# Altium footprint library STM32H563ZIT3Q.PcbLib: 3 footprints
Each footprint in its own frame and in the unit in brackets; x right, y up, seen from the top. Pads: shape width x height; smd on the part's side, far side on the other; paste and mask are expansions set on the pad; w line width, h text height; cw(c..) or ccw(c..) is an arc to the next point about the centre after c.
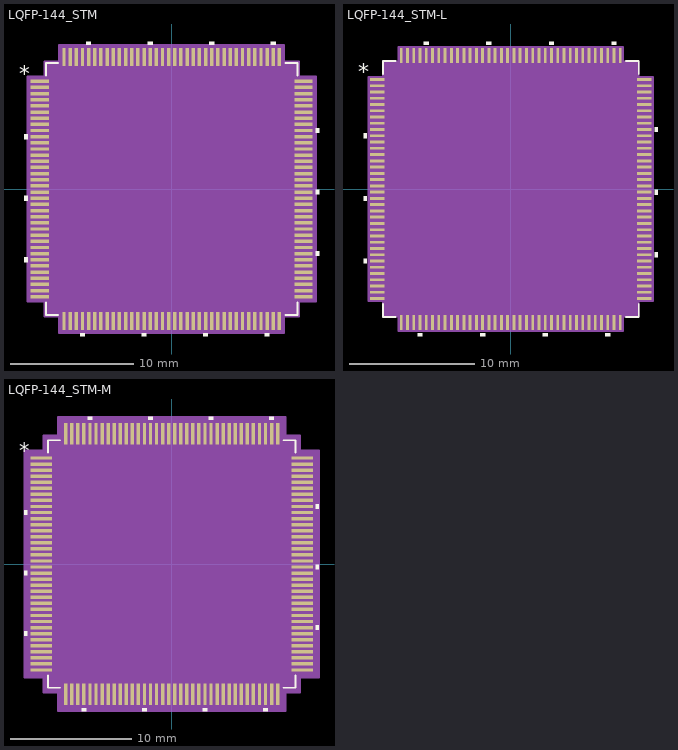
[diagram p0: the footprints below, top view; thin cyan lines are the x and y axes]

## LQFP-144_STM [mil]
pads (144):
  rect 58x11 smd paste+0 mask+0: 1(-422,344.49) 2(-422,324.8) 3(-422,305.12) 4(-422,285.43) 5(-422,265.75) 6(-422,246.06) 7(-422,226.38) 8(-422,206.69) 9(-422,187.01) 10(-422,167.32) 11(-422,147.64) 12(-422,127.95) 13(-422,108.27) 14(-422,88.58) 15(-422,68.9) 16(-422,49.21) 17(-422,29.53) 18(-422,9.84) 19(-422,-9.84) 20(-422,-29.53) 21(-422,-49.21) 22(-422,-68.9) 23(-422,-88.58) 24(-422,-108.27) 25(-422,-127.95) 26(-422,-147.64) 27(-422,-167.32) 28(-422,-187.01) 29(-422,-206.69) 30(-422,-226.38) 31(-422,-246.06) 32(-422,-265.75) 33(-422,-285.43) 34(-422,-305.12) 35(-422,-324.8) 36(-422,-344.49) 73(422,-344.49) 74(422,-324.8) 75(422,-305.12) 76(422,-285.43) 77(422,-265.75) 78(422,-246.06) 79(422,-226.38) 80(422,-206.69) 81(422,-187.01) 82(422,-167.32) 83(422,-147.64) 84(422,-127.95) 85(422,-108.27) 86(422,-88.58) 87(422,-68.9) 88(422,-49.21) 89(422,-29.53) 90(422,-9.84) 91(422,9.84) 92(422,29.53) 93(422,49.21) 94(422,68.9) 95(422,88.58) 96(422,108.27) 97(422,127.95) 98(422,147.64) 99(422,167.32) 100(422,187.01) 101(422,206.69) 102(422,226.38) 103(422,246.06) 104(422,265.75) 105(422,285.43) 106(422,305.12) 107(422,324.8) 108(422,344.49)
  rect 11x58 smd paste+0 mask+0: 37(-344.49,-422) 38(-324.8,-422) 39(-305.12,-422) 40(-285.43,-422) 41(-265.75,-422) 42(-246.06,-422) 43(-226.38,-422) 44(-206.69,-422) 45(-187.01,-422) 46(-167.32,-422) 47(-147.64,-422) 48(-127.95,-422) 49(-108.27,-422) 50(-88.58,-422) 51(-68.9,-422) 52(-49.21,-422) 53(-29.53,-422) 54(-9.84,-422) 55(9.84,-422) 56(29.53,-422) 57(49.21,-422) 58(68.9,-422) 59(88.58,-422) 60(108.27,-422) 61(127.95,-422) 62(147.64,-422) 63(167.32,-422) 64(187.01,-422) 65(206.69,-422) 66(226.38,-422) 67(246.06,-422) 68(265.75,-422) 69(285.43,-422) 70(305.12,-422) 71(324.8,-422) 72(344.49,-422) 109(344.49,422) 110(324.8,422) 111(305.12,422) 112(285.43,422) 113(265.75,422) 114(246.06,422) 115(226.38,422) 116(206.69,422) 117(187.01,422) 118(167.32,422) 119(147.64,422) 120(127.95,422) 121(108.27,422) 122(88.58,422) 123(68.9,422) 124(49.21,422) 125(29.53,422) 126(9.84,422) 127(-9.84,422) 128(-29.53,422) 129(-49.21,422) 130(-68.9,422) 131(-88.58,422) 132(-108.27,422) 133(-127.95,422) 134(-147.64,422) 135(-167.32,422) 136(-187.01,422) 137(-206.69,422) 138(-226.38,422) 139(-246.06,422) 140(-265.75,422) 141(-285.43,422) 142(-305.12,422) 143(-324.8,422) 144(-344.49,422)
Top Overlay:
  region: -461,174.82 -471,174.82 -471,159.82 -461,159.82
  region: -461,-22.03 -471,-22.03 -471,-37.03 -461,-37.03
  region: -461,-218.88 -471,-218.88 -471,-233.88 -461,-233.88
  region: -277.93,-461 -292.93,-461 -292.93,-471 -277.93,-471
  region: -81.08,-461 -96.08,-461 -96.08,-471 -81.08,-471
  region: 115.77,-461 100.77,-461 100.77,-471 115.77,-471
  region: 312.62,-461 297.62,-461 297.62,-471 312.62,-471
  region: 461,-199.19 471,-199.19 471,-214.19 461,-214.19
  region: 461,-2.34 471,-2.34 471,-17.34 461,-17.34
  region: 461,194.51 471,194.51 471,179.51 461,179.51
  region: 332.3,461 317.3,461 317.3,471 332.3,471
  region: 135.45,461 120.45,461 120.45,471 135.45,471
  region: -61.4,461 -76.4,461 -76.4,471 -61.4,471
  region: -258.25,461 -273.25,461 -273.25,471 -258.25,471
  lines w6: -402.5,-363.09 -402.5,-402.5 -363.09,-402.5 ; -402.5,363.09 -402.5,402.5 -363.09,402.5 ; 363.09,-402.5 402.5,-402.5 402.5,-363.09 ; 363.09,402.5 402.5,402.5 402.5,363.09
  text "*" at -488.5,344.33 h50
  text ".Designator" at -137.5,-25 h50
Mechanical 13:
  drawing of 581 lines, arcs and shapes, not listed
  text ".Designator" at -137.5,-25 h50
  text "*" at -395,329.33 h50
Mechanical 15:
  region: -359.99,-407.5 -407.5,-407.5 -407.5,-359.99 -461,-359.99 -461,359.99 -407.5,359.99 -407.5,407.5 -359.99,407.5 -359.99,461 359.99,461 359.99,407.5 407.5,407.5 407.5,359.99 461,359.99 461,-359.99 407.5,-359.99 407.5,-407.5 359.99,-407.5 359.99,-461 -359.99,-461
  lines w6: -461,-359.99 -407.5,-359.99 -407.5,-407.5 -359.99,-407.5 -359.99,-461 359.99,-461 359.99,-407.5 407.5,-407.5 407.5,-359.99 461,-359.99 461,359.99 407.5,359.99 407.5,407.5 359.99,407.5 359.99,461 -359.99,461 -359.99,407.5 -407.5,407.5 -407.5,359.99 -461,359.99 -461,-359.99
3D body "LQFP-144_STM.step": height 63.11, standoff 0, extent -437.01,-437.01 437.01,437.01

## LQFP-144_STM-L [mil]
pads (144):
  rect 46x9 smd paste+0 mask+0: 1(-420,344.49) 2(-420,324.8) 3(-420,305.12) 4(-420,285.43) 5(-420,265.75) 6(-420,246.06) 7(-420,226.38) 8(-420,206.69) 9(-420,187.01) 10(-420,167.32) 11(-420,147.64) 12(-420,127.95) 13(-420,108.27) 14(-420,88.58) 15(-420,68.9) 16(-420,49.21) 17(-420,29.53) 18(-420,9.84) 19(-420,-9.84) 20(-420,-29.53) 21(-420,-49.21) 22(-420,-68.9) 23(-420,-88.58) 24(-420,-108.27) 25(-420,-127.95) 26(-420,-147.64) 27(-420,-167.32) 28(-420,-187.01) 29(-420,-206.69) 30(-420,-226.38) 31(-420,-246.06) 32(-420,-265.75) 33(-420,-285.43) 34(-420,-305.12) 35(-420,-324.8) 36(-420,-344.49) 73(420,-344.49) 74(420,-324.8) 75(420,-305.12) 76(420,-285.43) 77(420,-265.75) 78(420,-246.06) 79(420,-226.38) 80(420,-206.69) 81(420,-187.01) 82(420,-167.32) 83(420,-147.64) 84(420,-127.95) 85(420,-108.27) 86(420,-88.58) 87(420,-68.9) 88(420,-49.21) 89(420,-29.53) 90(420,-9.84) 91(420,9.84) 92(420,29.53) 93(420,49.21) 94(420,68.9) 95(420,88.58) 96(420,108.27) 97(420,127.95) 98(420,147.64) 99(420,167.32) 100(420,187.01) 101(420,206.69) 102(420,226.38) 103(420,246.06) 104(420,265.75) 105(420,285.43) 106(420,305.12) 107(420,324.8) 108(420,344.49)
  rect 9x46 smd paste+0 mask+0: 37(-344.49,-420) 38(-324.8,-420) 39(-305.12,-420) 40(-285.43,-420) 41(-265.75,-420) 42(-246.06,-420) 43(-226.38,-420) 44(-206.69,-420) 45(-187.01,-420) 46(-167.32,-420) 47(-147.64,-420) 48(-127.95,-420) 49(-108.27,-420) 50(-88.58,-420) 51(-68.9,-420) 52(-49.21,-420) 53(-29.53,-420) 54(-9.84,-420) 55(9.84,-420) 56(29.53,-420) 57(49.21,-420) 58(68.9,-420) 59(88.58,-420) 60(108.27,-420) 61(127.95,-420) 62(147.64,-420) 63(167.32,-420) 64(187.01,-420) 65(206.69,-420) 66(226.38,-420) 67(246.06,-420) 68(265.75,-420) 69(285.43,-420) 70(305.12,-420) 71(324.8,-420) 72(344.49,-420) 109(344.49,420) 110(324.8,420) 111(305.12,420) 112(285.43,420) 113(265.75,420) 114(246.06,420) 115(226.38,420) 116(206.69,420) 117(187.01,420) 118(167.32,420) 119(147.64,420) 120(127.95,420) 121(108.27,420) 122(88.58,420) 123(68.9,420) 124(49.21,420) 125(29.53,420) 126(9.84,420) 127(-9.84,420) 128(-29.53,420) 129(-49.21,420) 130(-68.9,420) 131(-88.58,420) 132(-108.27,420) 133(-127.95,420) 134(-147.64,420) 135(-167.32,420) 136(-187.01,420) 137(-206.69,420) 138(-226.38,420) 139(-246.06,420) 140(-265.75,420) 141(-285.43,420) 142(-305.12,420) 143(-324.8,420) 144(-344.49,420)
Top Overlay:
  region: -453,174.82 -463,174.82 -463,159.82 -453,159.82
  region: -453,-22.03 -463,-22.03 -463,-37.03 -453,-37.03
  region: -453,-218.88 -463,-218.88 -463,-233.88 -453,-233.88
  region: -277.93,-453 -292.93,-453 -292.93,-463 -277.93,-463
  region: -81.08,-453 -96.08,-453 -96.08,-463 -81.08,-463
  region: 115.77,-453 100.77,-453 100.77,-463 115.77,-463
  region: 312.62,-453 297.62,-453 297.62,-463 312.62,-463
  region: 453,-199.19 463,-199.19 463,-214.19 453,-214.19
  region: 453,-2.34 463,-2.34 463,-17.34 453,-17.34
  region: 453,194.51 463,194.51 463,179.51 453,179.51
  region: 332.3,453 317.3,453 317.3,463 332.3,463
  region: 135.45,453 120.45,453 120.45,463 135.45,463
  region: -61.4,453 -76.4,453 -76.4,463 -61.4,463
  region: -258.25,453 -273.25,453 -273.25,463 -258.25,463
  lines w6: -402.5,-362.09 -402.5,-402.5 -362.09,-402.5 ; -402.5,362.09 -402.5,402.5 -362.09,402.5 ; 362.09,-402.5 402.5,-402.5 402.5,-362.09 ; 362.09,402.5 402.5,402.5 402.5,362.09
  text "*" at -480.5,344.33 h50
  text ".Designator" at -137.5,-25 h50
Mechanical 13:
  drawing of 581 lines, arcs and shapes, not listed
  text ".Designator" at -137.5,-25 h50
  text "*" at -395,329.33 h50
Mechanical 15:
  region: -352.99,-401.5 -401.5,-401.5 -401.5,-352.99 -447,-352.99 -447,352.99 -401.5,352.99 -401.5,401.5 -352.99,401.5 -352.99,447 352.99,447 352.99,401.5 401.5,401.5 401.5,352.99 447,352.99 447,-352.99 401.5,-352.99 401.5,-401.5 352.99,-401.5 352.99,-447 -352.99,-447
  lines w6: -447,-352.99 -401.5,-352.99 -401.5,-401.5 -352.99,-401.5 -352.99,-447 352.99,-447 352.99,-401.5 401.5,-401.5 401.5,-352.99 447,-352.99 447,352.99 401.5,352.99 401.5,401.5 352.99,401.5 352.99,447 -352.99,447 -352.99,401.5 -401.5,401.5 -401.5,352.99 -447,352.99 -447,-352.99
3D body "LQFP-144_STM.step": height 63.11, standoff 0, extent -437.01,-437.01 437.01,437.01

## LQFP-144_STM-M [mil]
pads (144):
  rect 70x11 smd paste+0 mask+0: 1(-424,344.49) 2(-424,324.8) 3(-424,305.12) 4(-424,285.43) 5(-424,265.75) 6(-424,246.06) 7(-424,226.38) 8(-424,206.69) 9(-424,187.01) 10(-424,167.32) 11(-424,147.64) 12(-424,127.95) 13(-424,108.27) 14(-424,88.58) 15(-424,68.9) 16(-424,49.21) 17(-424,29.53) 18(-424,9.84) 19(-424,-9.84) 20(-424,-29.53) 21(-424,-49.21) 22(-424,-68.9) 23(-424,-88.58) 24(-424,-108.27) 25(-424,-127.95) 26(-424,-147.64) 27(-424,-167.32) 28(-424,-187.01) 29(-424,-206.69) 30(-424,-226.38) 31(-424,-246.06) 32(-424,-265.75) 33(-424,-285.43) 34(-424,-305.12) 35(-424,-324.8) 36(-424,-344.49) 73(424,-344.49) 74(424,-324.8) 75(424,-305.12) 76(424,-285.43) 77(424,-265.75) 78(424,-246.06) 79(424,-226.38) 80(424,-206.69) 81(424,-187.01) 82(424,-167.32) 83(424,-147.64) 84(424,-127.95) 85(424,-108.27) 86(424,-88.58) 87(424,-68.9) 88(424,-49.21) 89(424,-29.53) 90(424,-9.84) 91(424,9.84) 92(424,29.53) 93(424,49.21) 94(424,68.9) 95(424,88.58) 96(424,108.27) 97(424,127.95) 98(424,147.64) 99(424,167.32) 100(424,187.01) 101(424,206.69) 102(424,226.38) 103(424,246.06) 104(424,265.75) 105(424,285.43) 106(424,305.12) 107(424,324.8) 108(424,344.49)
  rect 11x70 smd paste+0 mask+0: 37(-344.49,-424) 38(-324.8,-424) 39(-305.12,-424) 40(-285.43,-424) 41(-265.75,-424) 42(-246.06,-424) 43(-226.38,-424) 44(-206.69,-424) 45(-187.01,-424) 46(-167.32,-424) 47(-147.64,-424) 48(-127.95,-424) 49(-108.27,-424) 50(-88.58,-424) 51(-68.9,-424) 52(-49.21,-424) 53(-29.53,-424) 54(-9.84,-424) 55(9.84,-424) 56(29.53,-424) 57(49.21,-424) 58(68.9,-424) 59(88.58,-424) 60(108.27,-424) 61(127.95,-424) 62(147.64,-424) 63(167.32,-424) 64(187.01,-424) 65(206.69,-424) 66(226.38,-424) 67(246.06,-424) 68(265.75,-424) 69(285.43,-424) 70(305.12,-424) 71(324.8,-424) 72(344.49,-424) 109(344.49,424) 110(324.8,424) 111(305.12,424) 112(285.43,424) 113(265.75,424) 114(246.06,424) 115(226.38,424) 116(206.69,424) 117(187.01,424) 118(167.32,424) 119(147.64,424) 120(127.95,424) 121(108.27,424) 122(88.58,424) 123(68.9,424) 124(49.21,424) 125(29.53,424) 126(9.84,424) 127(-9.84,424) 128(-29.53,424) 129(-49.21,424) 130(-68.9,424) 131(-88.58,424) 132(-108.27,424) 133(-127.95,424) 134(-147.64,424) 135(-167.32,424) 136(-187.01,424) 137(-206.69,424) 138(-226.38,424) 139(-246.06,424) 140(-265.75,424) 141(-285.43,424) 142(-305.12,424) 143(-324.8,424) 144(-344.49,424)
Top Overlay:
  region: -469,174.82 -479,174.82 -479,159.82 -469,159.82
  region: -469,-22.03 -479,-22.03 -479,-37.03 -469,-37.03
  region: -469,-218.88 -479,-218.88 -479,-233.88 -469,-233.88
  region: -277.93,-469 -292.93,-469 -292.93,-479 -277.93,-479
  region: -81.08,-469 -96.08,-469 -96.08,-479 -81.08,-479
  region: 115.77,-469 100.77,-469 100.77,-479 115.77,-479
  region: 312.62,-469 297.62,-469 297.62,-479 312.62,-479
  region: 469,-199.19 479,-199.19 479,-214.19 469,-214.19
  region: 469,-2.34 479,-2.34 479,-17.34 469,-17.34
  region: 469,194.51 479,194.51 479,179.51 469,179.51
  region: 332.3,469 317.3,469 317.3,479 332.3,479
  region: 135.45,469 120.45,469 120.45,479 135.45,479
  region: -61.4,469 -76.4,469 -76.4,479 -61.4,479
  region: -258.25,469 -273.25,469 -273.25,479 -258.25,479
  lines w6: -402.5,-363.09 -402.5,-402.5 -363.09,-402.5 ; -402.5,363.09 -402.5,402.5 -363.09,402.5 ; 363.09,-402.5 402.5,-402.5 402.5,-363.09 ; 363.09,402.5 402.5,402.5 402.5,363.09
  text "*" at -496.5,344.33 h50
  text ".Designator" at -137.5,-25 h50
Mechanical 13:
  drawing of 581 lines, arcs and shapes, not listed
  text ".Designator" at -137.5,-25 h50
  text "*" at -395,329.33 h50
Mechanical 15:
  region: -369.99,-417.5 -417.5,-417.5 -417.5,-369.99 -479,-369.99 -479,369.99 -417.5,369.99 -417.5,417.5 -369.99,417.5 -369.99,479 369.99,479 369.99,417.5 417.5,417.5 417.5,369.99 479,369.99 479,-369.99 417.5,-369.99 417.5,-417.5 369.99,-417.5 369.99,-479 -369.99,-479
  lines w6: -479,-369.99 -417.5,-369.99 -417.5,-417.5 -369.99,-417.5 -369.99,-479 369.99,-479 369.99,-417.5 417.5,-417.5 417.5,-369.99 479,-369.99 479,369.99 417.5,369.99 417.5,417.5 369.99,417.5 369.99,479 -369.99,479 -369.99,417.5 -417.5,417.5 -417.5,369.99 -479,369.99 -479,-369.99
3D body "LQFP-144_STM.step": height 63.11, standoff 0, extent -437.01,-437.01 437.01,437.01